# Altium footprint library Cores.PcbLib: 13 footprints
Each footprint in its own frame and in the unit in brackets; x right, y up, seen from the top. Pads: shape width x height; smd on the part's side, far side on the other; paste and mask are expansions set on the pad; w line width, h text height; cw(c..) or ccw(c..) is an arc to the next point about the centre after c.
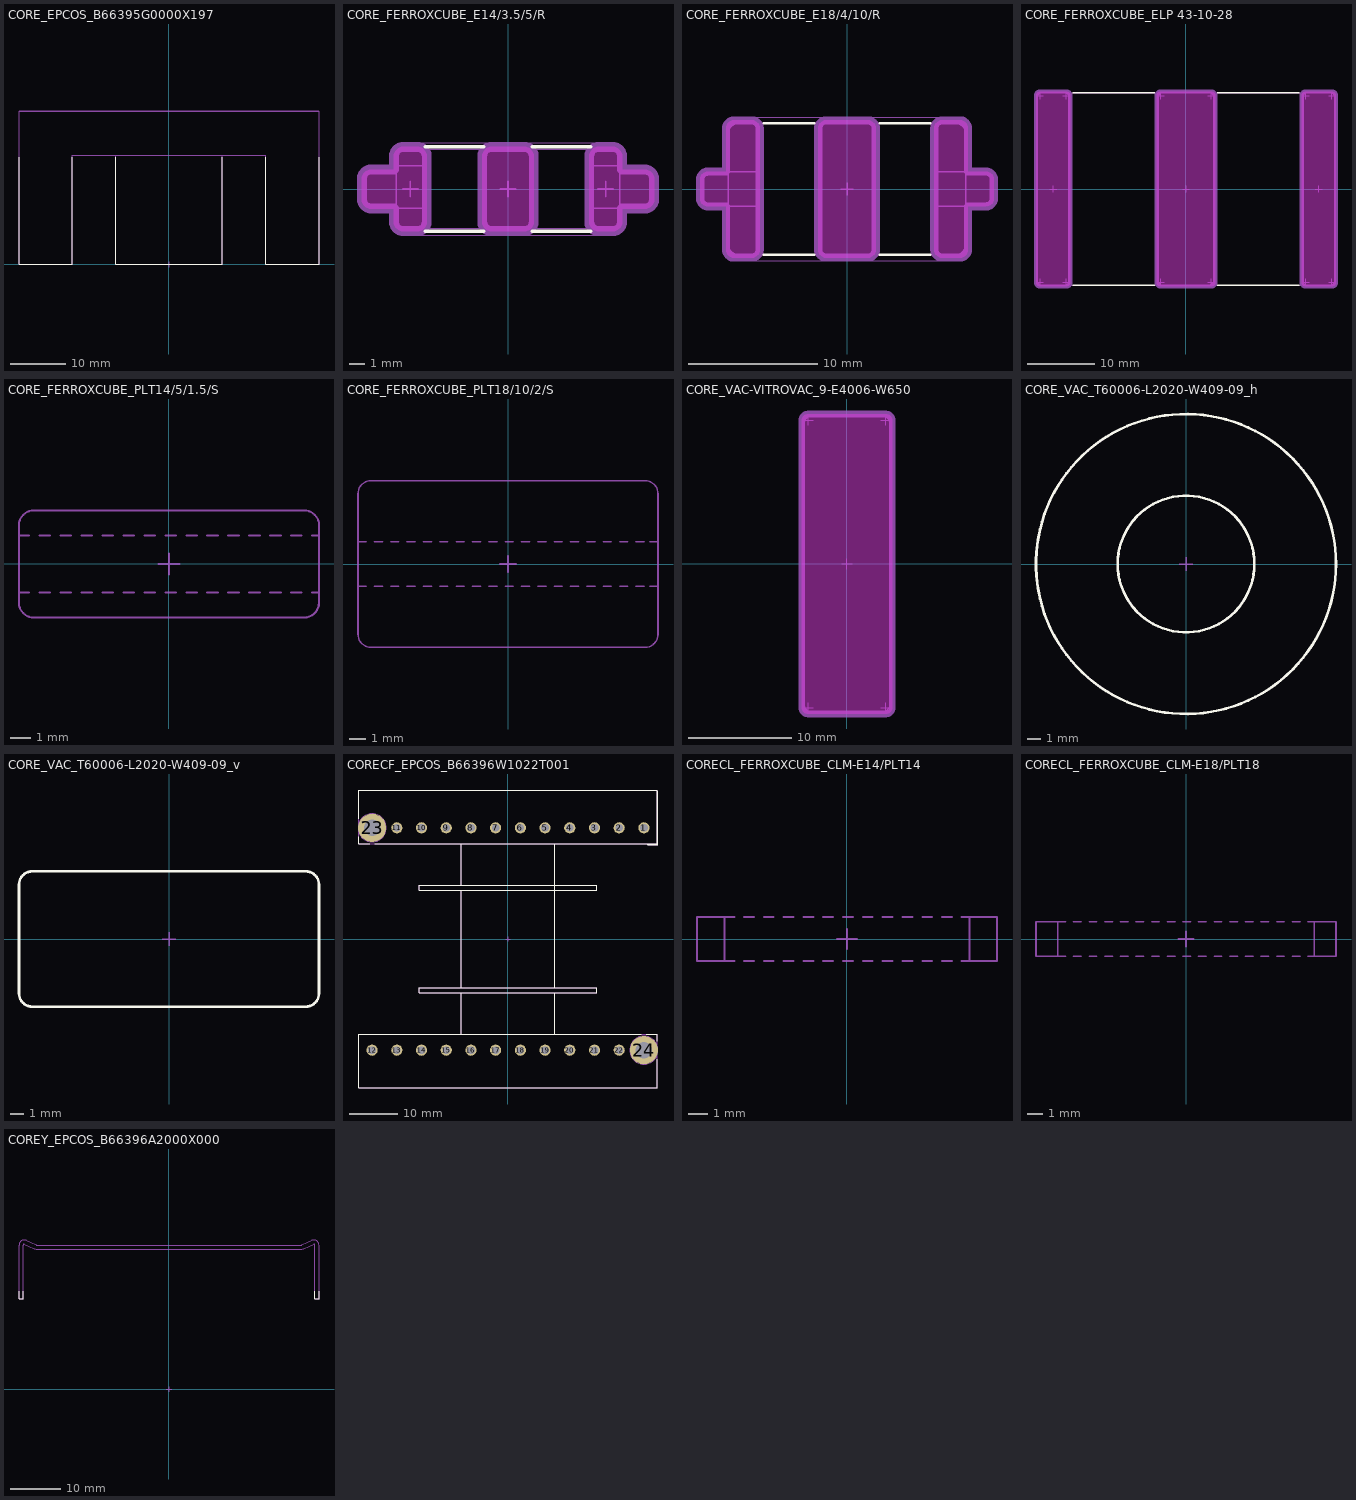
[diagram p0: the footprints below, top view; thin cyan lines are the x and y axes]

## CORE_EPCOS_B66395G0000X197 [mm] "ETD54 Core; L 54.5mm W 27.8mm H 19.3mm"
height 19.3
Top Overlay:
  lines w0.1: -27.25,19.5 -27.25,0 -17.575,0 -17.575,19.5 ; -9.65,10.9 -9.65,19.5 -9.65,0 9.65,0 9.65,19.5 9.65,10.9 ; 17.575,19.5 17.575,0 27.25,0 27.25,19.5
Mechanical 8:
  lines w0.1: -0.5,0 0,0 ; 0,-0.5 0,0 ; 0,0.5 0,0 ; 0.5,0 0,0
Mechanical 14:
  lines w0.1: -27.25,27.9 27.25,27.9 ; 27.25,-0.1 27.25,19.5 27.25,27.8 -27.25,27.8 -27.25,19.5 -27.25,0 -17.575,0 -17.575,19.5 ; 27.25,0 17.575,0 17.575,19.5 ; -17.575,19.5 -17.575,19.8 ; -17.575,19.5 -17.575,19.8 ; -17.575,19.8 17.575,19.8 ; -17.575,19.8 17.575,19.8 ; -9.65,19.5 -9.65,19.8 -9.65,19.5 ; -9.65,19.5 -9.65,0 9.65,0 9.65,19.5 ; 9.65,19.5 9.65,19.8 9.65,19.5 ; 17.575,19.5 17.575,19.8 ; 17.575,19.5 17.575,19.8
3D body "CORE_EPCOS_B66395G0000X197.stp": height 36.95, standoff 17.65, extent -27.25,0 27.25,27.8

## CORE_FERROXCUBE_E14/3.5/5/R [mm] "Planar E Core  With Clamp Recess L 14mm H 3.6mm W 5mm"
height 3.6
Top Overlay:
  lines w0.2: -5.3,-2.7 -1.55,-2.7 ; -5.3,2.7 -1.55,2.7 ; 1.55,-2.7 5.3,-2.7 ; 1.55,2.7 5.3,2.7
Keep-Out Layer:
  board cut-out: -8.75,-1.262 -8.869,-1.262 -9.09,-1.17 -9.259,-1.002 -9.35,-0.781 -9.35,-0.662 -9.35,0.638 -9.35,0.758 -9.259,0.978 -9.09,1.147 -8.869,1.238 -8.75,1.238 -7.3,1.238 -7.3,2.088 -7.3,2.208 -7.209,2.428 -7.04,2.597 -6.819,2.688 -6.7,2.688 -5.8,2.688 -5.681,2.688 -5.46,2.597 -5.291,2.428 -5.2,2.208 -5.2,2.088 -5.2,-2.112 -5.2,-2.231 -5.291,-2.452 -5.46,-2.62 -5.681,-2.712 -5.8,-2.712 -6.7,-2.712 -6.819,-2.712 -7.04,-2.62 -7.209,-2.452 -7.3,-2.231 -7.3,-2.112 -7.3,-1.262
  board cut-out: -1.65,-2.112 -1.65,2.088 -1.65,2.208 -1.559,2.428 -1.39,2.597 -1.169,2.688 -1.05,2.688 1.05,2.688 1.169,2.688 1.39,2.597 1.559,2.428 1.65,2.208 1.65,2.088 1.65,-2.112 1.65,-2.231 1.559,-2.452 1.39,-2.62 1.169,-2.712 1.05,-2.712 -1.05,-2.712 -1.169,-2.712 -1.39,-2.62 -1.559,-2.452 -1.65,-2.231
  board cut-out: 5.2,-2.112 5.2,-2.231 5.291,-2.452 5.46,-2.62 5.681,-2.712 5.8,-2.712 6.7,-2.712 6.819,-2.712 7.04,-2.62 7.209,-2.452 7.3,-2.231 7.3,-2.112 7.3,-1.262 8.75,-1.262 8.869,-1.262 9.09,-1.17 9.259,-1.002 9.35,-0.781 9.35,-0.662 9.35,0.638 9.35,0.758 9.259,0.978 9.09,1.147 8.869,1.238 8.75,1.238 7.3,1.238 7.3,2.088 7.3,2.208 7.209,2.428 7.04,2.597 6.819,2.688 6.7,2.688 5.8,2.688 5.681,2.688 5.46,2.597 5.291,2.428 5.2,2.208 5.2,2.088
Mechanical 1:
  lines w0.635: -9.35,-0.65 ccw(c-8.75,-0.65) -8.75,-1.25 -7.3,-1.25 -7.3,-2.1 ccw(c-6.7,-2.1) -6.7,-2.7 -5.8,-2.7 ccw(c-5.8,-2.1) -5.2,-2.1 -5.2,2.1 ccw(c-5.8,2.1) -5.8,2.7 -6.7,2.7 ccw(c-6.7,2.1) -7.3,2.1 -7.3,1.25 -8.75,1.25 ccw(c-8.75,0.65) -9.35,0.65 -9.35,-0.65 ; -1.65,-2.1 ccw(c-1.05,-2.1) -1.05,-2.7 1.05,-2.7 ccw(c1.05,-2.1) 1.65,-2.1 1.65,2.1 ccw(c1.05,2.1) 1.05,2.7 -1.05,2.7 ccw(c-1.05,2.1) -1.65,2.1 -1.65,-2.1 ; 5.2,-2.1 ccw(c5.8,-2.1) 5.8,-2.7 6.7,-2.7 ccw(c6.7,-2.1) 7.3,-2.1 7.3,-1.25 8.75,-1.25 ccw(c8.75,-0.65) 9.35,-0.65 9.35,0.65 ccw(c8.75,0.65) 8.75,1.25 7.3,1.25 7.3,2.1 ccw(c6.7,2.1) 6.7,2.7 5.8,2.7 ccw(c5.8,2.1) 5.2,2.1 5.2,-2.1
Mechanical 8:
  lines w0.1: -6.75,0 -6.25,0 ; -6.25,-0.5 -6.25,0 ; -6.25,0.5 -6.25,0 ; -5.75,0 -6.25,0 ; -0.5,0 0,0 ; 0,-0.5 0,0 ; 0,0.5 0,0 ; 0.5,0 0,0 ; 5.75,0 6.25,0 ; 6.25,-0.5 6.25,0 ; 6.25,0.5 6.25,0 ; 6.75,0 6.25,0 ; -9.35,-0.65 ccw(c-8.75,-0.65) -8.75,-1.25 -7.3,-1.25 -7.3,-2.1 ccw(c-6.7,-2.1) -6.7,-2.7 -5.8,-2.7 ccw(c-5.8,-2.1) -5.2,-2.1 -5.2,2.1 ccw(c-5.8,2.1) -5.8,2.7 -6.7,2.7 ccw(c-6.7,2.1) -7.3,2.1 -7.3,1.25 -8.75,1.25 ccw(c-8.75,0.65) -9.35,0.65 -9.35,-0.65 ; -1.65,-2.1 ccw(c-1.05,-2.1) -1.05,-2.7 1.05,-2.7 ccw(c1.05,-2.1) 1.65,-2.1 1.65,2.1 ccw(c1.05,2.1) 1.05,2.7 -1.05,2.7 ccw(c-1.05,2.1) -1.65,2.1 -1.65,-2.1 ; 5.2,-2.1 ccw(c5.8,-2.1) 5.8,-2.7 6.7,-2.7 ccw(c6.7,-2.1) 7.3,-2.1 7.3,-1.25 8.75,-1.25 ccw(c8.75,-0.65) 9.35,-0.65 9.35,0.65 ccw(c8.75,0.65) 8.75,1.25 7.3,1.25 7.3,2.1 ccw(c6.7,2.1) 6.7,2.7 5.8,2.7 ccw(c5.8,2.1) 5.2,2.1 5.2,-2.1
Mechanical 14:
  lines w0.1: -7.15,-1.225 -4.95,-1.225 -4.95,1.475 -7.15,1.475 ; 7.15,-1.225 4.95,-1.225 4.95,1.475 7.15,1.475 ; -7.15,-1.85 ccw(c-6.45,-1.85) -6.45,-2.55 6.45,-2.55 ccw(c6.45,-1.85) 7.15,-1.85 7.15,1.85 ccw(c6.45,1.85) 6.45,2.55 -6.45,2.55 ccw(c-6.45,1.85) -7.15,1.85 -7.15,-1.85
Mechanical 15:
  lines w0.05: -9.6,-0.65 ccw(c-8.75,-0.65) -8.75,-1.5 -7.55,-1.5 -7.55,-2.1 ccw(c-6.7,-2.1) -6.7,-2.95 6.7,-2.95 ccw(c6.7,-2.1) 7.55,-2.1 7.55,-1.5 8.75,-1.5 ccw(c8.75,-0.65) 9.6,-0.65 9.6,0.65 ccw(c8.75,0.65) 8.75,1.5 7.55,1.5 7.55,2.1 ccw(c6.7,2.1) 6.7,2.95 -6.7,2.95 ccw(c-6.7,2.1) -7.55,2.1 -7.55,1.5 -8.75,1.5 ccw(c-8.75,0.65) -9.6,0.65 -9.6,-0.65
Drill Drawing:
  lines w0.1: -9.35,-0.6 -3.776,-0.6 ; -8.75,-0.868 -9.35,-0.65 ; -8.75,-0.432 -9.35,-0.65 ; -6.75,0 -6.25,0 ; -6.7,-2.318 -7.3,-2.1 ; -6.7,-1.882 -7.3,-2.1 ; -6.25,-0.5 -6.25,0 ; -6.25,0.5 -6.25,0 ; -6.25,0.6 -6.25,1.5 ; -5.8,-2.318 -5.2,-2.1 ; -5.8,-1.882 -5.2,-2.1 ; -5.75,0 -6.25,0 ; -5.65,0.782 -6.25,1 ; -5.65,1.218 -6.25,1 ; -5.2,-2.7 -1.65,-2.7 ; -5.2,2.7 -1.65,2.7 ; -2.495,-2.1 -2.276,-2.7 ; -2.495,2.1 -2.276,2.7 ; -2.276,0.7 -2.276,-2.7 ; -2.276,1.3 -2.276,2.7 ; -2.058,-2.1 -2.276,-2.7 ; -2.058,2.1 -2.276,2.7 ; -1.976,-0.6 7.525,-0.6 ; -1.05,-2.082 -1.65,-1.864 ; -1.05,-1.645 -1.65,-1.864 ; -0.6,0.782 0,1 ; -0.6,1.218 0,1 ; -0.5,0 0,0 ; 0,-0.5 0,0 ; 0,0.5 0,0 ; 0.5,0 0,0 ; 0.6,0.782 0,1 ; 0.6,1.218 0,1 ; 1.05,-2.082 1.65,-1.864 ; 1.05,-1.645 1.65,-1.864 ; 1.65,-2.7 5.2,-2.7 ; 1.65,2.7 5.2,2.7 ; 2.82,-1.773 6.373,-1.773 7.124,-2.524 ; 5.65,0.782 6.25,1 ; 5.65,1.218 6.25,1 ; 5.75,0 6.25,0 ; 6.218,-2.102 7.124,-2.524 ; 6.25,-0.5 6.25,0 ; 6.25,0.5 6.25,0 ; 6.25,0.6 6.25,1.5 ; 6.702,-1.618 7.124,-2.524 ; 6.75,0 6.25,0 ; 8.107,-0.65 8.325,-1.25 ; 8.107,0.65 8.325,1.25 ; 8.543,-0.65 8.325,-1.25 ; 8.543,0.65 8.325,1.25 ; 8.625,-0.6 9.35,-0.6 ; 8.75,-0.818 9.35,-0.6 ; 8.75,-0.382 9.35,-0.6 ; -9.35,-0.65 ccw(c-8.75,-0.65) -8.75,-1.25 -7.3,-1.25 -7.3,-2.1 ; -9.35,-0.65 -9.35,0.65 cw(c-8.75,0.65) -8.75,1.25 -7.3,1.25 -7.3,2.1 cw(c-6.7,2.1) -6.7,2.7 -5.8,2.7 cw(c-5.8,2.1) -5.2,2.1 -5.2,-2.1 ; -7.3,-2.1 ccw(c-6.7,-2.1) -6.7,-2.7 -5.8,-2.7 ccw(c-5.8,-2.1) -5.2,-2.1 ; -7.3,-2.1 -5.2,-2.1 ; -6.25,1 0,1 ; -1.65,-1.864 1.65,-1.864 ; 0,1 6.25,1 ; 8.325,-1.25 8.325,1.25 ; -1.65,-2.1 ccw(c-1.05,-2.1) -1.05,-2.7 1.05,-2.7 ccw(c1.05,-2.1) 1.65,-2.1 1.65,2.1 ccw(c1.05,2.1) 1.05,2.7 -1.05,2.7 ccw(c-1.05,2.1) -1.65,2.1 -1.65,-2.1 ; 0,0.6 0,1.5 0,0.6 ; 5.2,-2.1 ccw(c5.8,-2.1) 5.8,-2.7 6.7,-2.7 ccw(c6.7,-2.1) 7.3,-2.1 7.3,-1.25 8.75,-1.25 ccw(c8.75,-0.65) 9.35,-0.65 9.35,0.65 ccw(c8.75,0.65) 8.75,1.25 7.3,1.25 7.3,2.1 ccw(c6.7,2.1) 6.7,2.7 5.8,2.7 ccw(c5.8,2.1) 5.2,2.1 5.2,-2.1
  text "3.3" at -0.868,-1.721 h0.9
  text "6.25" at 1.924,1.209 h0.9
  text "18.7" at 2.267,-0.391 h0.9
  text "2.5" at 8.05,-0.587 h0.9
  text "r0.6" at 2.913,-1.658 h0.9
  text "5.4" at -2.488,-1.9 h0.9
  text "2.1" at -7.081,-0.395 h0.9
  text "6.25" at -5.054,1.209 h0.9
3D body "CORE_FERROXCUBE_E14-3.5-5-R.stp": height 1.75, standoff -1.85, extent -7.15,-2.55 7.15,2.55

## CORE_FERROXCUBE_E18/4/10/R [mm] "Planar E Core  With Clamp Recess L 18mm H 4mm W 10mm"
height 4.1
Top Overlay:
  lines w0.2: -6.433,-5.1 -2.542,-5.1 ; -6.433,5.1 -2.542,5.1 ; 2.542,-5.1 6.433,-5.1 ; 2.542,5.1 6.433,5.1
Keep-Out Layer:
  board cut-out: -10.75,-1.35 -10.869,-1.35 -11.09,-1.259 -11.259,-1.09 -11.35,-0.869 -11.35,-0.75 -11.35,0.75 -11.35,0.869 -11.259,1.09 -11.09,1.259 -10.869,1.35 -10.75,1.35 -9.35,1.35 -9.35,4.7 -9.35,4.819 -9.259,5.04 -9.09,5.209 -8.869,5.3 -8.75,5.3 -7.35,5.3 -7.231,5.3 -7.01,5.209 -6.841,5.04 -6.75,4.819 -6.75,4.7 -6.75,-4.7 -6.75,-4.819 -6.841,-5.04 -7.01,-5.209 -7.231,-5.3 -7.35,-5.3 -8.75,-5.3 -8.869,-5.3 -9.09,-5.209 -9.259,-5.04 -9.35,-4.819 -9.35,-4.7 -9.35,-1.35
  board cut-out: -1.625,-5.3 -1.744,-5.3 -1.965,-5.209 -2.134,-5.04 -2.225,-4.819 -2.225,-4.7 -2.225,4.7 -2.225,4.819 -2.134,5.04 -1.965,5.209 -1.744,5.3 -1.625,5.3 1.625,5.3 1.744,5.3 1.965,5.209 2.134,5.04 2.225,4.819 2.225,4.7 2.225,-4.7 2.225,-4.819 2.134,-5.04 1.965,-5.209 1.744,-5.3 1.625,-5.3
  board cut-out: 7.35,-5.3 7.231,-5.3 7.01,-5.209 6.841,-5.04 6.75,-4.819 6.75,-4.7 6.75,4.7 6.75,4.819 6.841,5.04 7.01,5.209 7.231,5.3 7.35,5.3 8.75,5.3 8.869,5.3 9.09,5.209 9.259,5.04 9.35,4.819 9.35,4.7 9.35,1.35 10.75,1.35 10.869,1.35 11.09,1.259 11.259,1.09 11.35,0.869 11.35,0.75 11.35,-0.75 11.35,-0.869 11.259,-1.09 11.09,-1.259 10.869,-1.35 10.75,-1.35 9.35,-1.35 9.35,-4.7 9.35,-4.819 9.259,-5.04 9.09,-5.209 8.869,-5.3 8.75,-5.3
Mechanical 1:
  lines w0.635: -11.35,-0.75 ccw(c-10.75,-0.75) -10.75,-1.35 -9.35,-1.35 -9.35,-4.7 ccw(c-8.75,-4.7) -8.75,-5.3 -7.35,-5.3 ccw(c-7.35,-4.7) -6.75,-4.7 -6.75,4.7 ccw(c-7.35,4.7) -7.35,5.3 -8.75,5.3 ccw(c-8.75,4.7) -9.35,4.7 -9.35,1.35 -10.75,1.35 ccw(c-10.75,0.75) -11.35,0.75 -11.35,-0.75 ; -2.225,-4.7 ccw(c-1.625,-4.7) -1.625,-5.3 1.625,-5.3 ccw(c1.625,-4.7) 2.225,-4.7 2.225,4.7 ccw(c1.625,4.7) 1.625,5.3 -1.625,5.3 ccw(c-1.625,4.7) -2.225,4.7 -2.225,-4.7 ; 6.75,-4.7 ccw(c7.35,-4.7) 7.35,-5.3 8.75,-5.3 ccw(c8.75,-4.7) 9.35,-4.7 9.35,-1.35 10.75,-1.35 ccw(c10.75,-0.75) 11.35,-0.75 11.35,0.75 ccw(c10.75,0.75) 10.75,1.35 9.35,1.35 9.35,4.7 ccw(c8.75,4.7) 8.75,5.3 7.35,5.3 ccw(c7.35,4.7) 6.75,4.7 6.75,-4.7
Mechanical 8:
  lines w0.1: -0.5,0 0,0 ; 0,-0.5 0,0 ; 0,0.5 0,0 ; 0.5,0 0,0
Mechanical 14:
  lines w0.1: -9.175,-1.35 -6.975,-1.35 -6.975,1.35 -9.175,1.35 ; 9.175,-1.35 6.975,-1.35 6.975,1.35 9.175,1.35 ; -9.175,-4.3 ccw(c-8.375,-4.3) -8.375,-5.1 8.375,-5.1 ccw(c8.375,-4.3) 9.175,-4.3 9.175,4.3 ccw(c8.375,4.3) 8.375,5.1 -8.375,5.1 ccw(c-8.375,4.3) -9.175,4.3 -9.175,-4.3
Mechanical 15:
  lines w0.05: -11.6,-0.75 ccw(c-10.75,-0.75) -10.75,-1.6 -9.6,-1.6 -9.6,-4.7 ccw(c-8.75,-4.7) -8.75,-5.55 8.75,-5.55 ccw(c8.75,-4.7) 9.6,-4.7 9.6,-1.6 10.75,-1.6 ccw(c10.75,-0.75) 11.6,-0.75 11.6,0.75 ccw(c10.75,0.75) 10.75,1.6 9.6,1.6 9.6,4.7 ccw(c8.75,4.7) 8.75,5.55 -8.75,5.55 ccw(c-8.75,4.7) -9.6,4.7 -9.6,1.6 -10.75,1.6 ccw(c-10.75,0.75) -11.6,0.75 -11.6,-0.75
Drill Drawing:
  lines w0.1: -10.436,-2.29 -10.094,-1.35 -9.752,-2.29 ; -10.436,2.29 -10.094,1.35 -9.752,2.29 ; -10.41,-1.047 -11.35,-0.705 ; -10.41,-0.363 -11.35,-0.705 ; -10.29,2.975 -9.35,3.317 -10.29,3.659 ; -10.29,3.317 -5.81,3.317 ; -10.094,-2.29 -10.094,2.29 ; -8.55,0 -8.05,0 ; -8.05,-0.5 -8.05,0 ; -8.05,0.5 -8.05,0 ; -8.05,0.6 -8.05,2 ; -7.55,0 -8.05,0 ; -7.11,0.658 -8.05,1 ; -7.11,1.342 -8.05,1 ; -6.75,-5.3 -2.225,-5.3 ; -6.75,5.3 -2.225,5.3 ; -5.81,2.975 -6.75,3.317 -5.81,3.659 ; -4.83,-4.36 -4.488,-5.3 ; -4.83,4.36 -4.488,5.3 ; -4.488,-1.041 -4.488,-5.3 ; -4.488,2.459 -4.488,5.3 ; -4.145,-4.36 -4.488,-5.3 ; -4.145,4.36 -4.488,5.3 ; -3.165,2.975 -2.225,3.317 -3.165,3.659 ; -3.165,3.317 3.165,3.317 ; -0.94,0.658 0,1 ; -0.94,1.342 0,1 ; -0.5,0 0,0 ; 0,-0.5 0,0 ; 0,0.5 0,0 ; 0,0.6 0,2 ; 0.5,0 0,0 ; 0.94,0.658 0,1 ; 0.94,1.342 0,1 ; 2.225,-5.3 6.75,-5.3 ; 2.225,5.3 6.75,5.3 ; 2.989,-3.673 7.723,-3.673 9.174,-5.124 ; 3.165,2.975 2.225,3.317 3.165,3.659 ; 5.81,2.975 6.75,3.317 5.81,3.659 ; 5.81,3.317 10.29,3.317 ; 7.11,0.658 8.05,1 ; 7.11,1.342 8.05,1 ; 7.55,0 8.05,0 ; 8.05,-0.5 8.05,0 ; 8.05,0.5 8.05,0 ; 8.05,0.6 8.05,2 ; 8.268,-4.702 9.174,-5.124 ; 8.55,0 8.05,0 ; 8.752,-4.218 9.174,-5.124 ; 10.29,2.975 9.35,3.317 10.29,3.659 ; 10.41,-1.047 11.35,-0.705 ; 10.41,-0.363 11.35,-0.705 ; -11.35,-0.705 11.35,-0.705 ; -8.05,1 0,1 ; 0,1 8.05,1 ; -11.35,-0.75 ccw(c-10.75,-0.75) -10.75,-1.35 -9.35,-1.35 -9.35,-4.7 ccw(c-8.75,-4.7) -8.75,-5.3 -7.35,-5.3 ccw(c-7.35,-4.7) -6.75,-4.7 -6.75,4.7 ccw(c-7.35,4.7) -7.35,5.3 -8.75,5.3 ccw(c-8.75,4.7) -9.35,4.7 -9.35,1.35 -10.75,1.35 ccw(c-10.75,0.75) -11.35,0.75 -11.35,-0.75 ; -2.225,-4.7 ccw(c-1.625,-4.7) -1.625,-5.3 1.625,-5.3 ccw(c1.625,-4.7) 2.225,-4.7 2.225,4.7 ccw(c1.625,4.7) 1.625,5.3 -1.625,5.3 ccw(c-1.625,4.7) -2.225,4.7 -2.225,-4.7 ; 6.75,-4.7 ccw(c7.35,-4.7) 7.35,-5.3 8.75,-5.3 ccw(c8.75,-4.7) 9.35,-4.7 9.35,-1.35 10.75,-1.35 ccw(c10.75,-0.75) 11.35,-0.75 11.35,0.75 ccw(c10.75,0.75) 10.75,1.35 9.35,1.35 9.35,4.7 ccw(c8.75,4.7) 8.75,5.3 7.35,5.3 ccw(c7.35,4.7) 6.75,4.7 6.75,-4.7
  text "2.6" at -9.06,3.527 h1
  text "10.6" at -4.697,-3.709 h1
  text "4.4" at -1.01,3.527 h1
  text "2.6" at 7.04,3.527 h1
  text "r0.6" at 3.464,-3.464 h1
  text "2.7" at -9.594,-4.714 h1
  text "8.05" at -5.451,1.209 h1
  text "8.05" at 2.599,1.209 h1
  text "22.7" at 2.842,-0.496 h1
3D body "CORE_FERROXCUBE_E18-4-10-R.stp": height 2.3, standoff -1.8, extent -9.175,-5.1 9.175,5.1

## CORE_FERROXCUBE_ELP 43-10-28 [mm] "Planar E Core  With Clamp Recess L 43.2mm W 27.95mm H 9.5mm"
height 9.65
Top Overlay:
  lines w0.2: -16.833,-14.25 -4.666,-14.25 ; -16.833,14.25 -4.666,14.25 ; 4.667,-14.25 16.834,-14.25 ; 4.667,14.25 16.834,14.25
Keep-Out Layer:
  board cut-out: 17.15,-13.85 17.15,13.85 17.15,13.969 17.241,14.19 17.41,14.359 17.631,14.45 17.75,14.45 21.65,14.45 21.769,14.45 21.99,14.359 22.159,14.19 22.25,13.969 22.25,13.85 22.25,-13.85 22.25,-13.969 22.159,-14.19 21.99,-14.359 21.769,-14.45 21.65,-14.45 17.75,-14.45 17.631,-14.45 17.41,-14.359 17.241,-14.19 17.15,-13.969
  board cut-out: -4.35,-13.85 -4.35,13.85 -4.35,13.969 -4.259,14.19 -4.09,14.359 -3.869,14.45 -3.75,14.45 3.75,14.45 3.869,14.45 4.09,14.359 4.259,14.19 4.35,13.969 4.35,13.85 4.35,-13.85 4.35,-13.969 4.259,-14.19 4.09,-14.359 3.869,-14.45 3.75,-14.45 -3.75,-14.45 -3.869,-14.45 -4.09,-14.359 -4.259,-14.19 -4.35,-13.969
  board cut-out: -21.65,-14.45 -17.75,-14.45 -17.631,-14.45 -17.41,-14.359 -17.241,-14.19 -17.15,-13.969 -17.15,-13.85 -17.15,13.85 -17.15,13.969 -17.241,14.19 -17.41,14.359 -17.631,14.45 -17.75,14.45 -21.65,14.45 -21.769,14.45 -21.99,14.359 -22.159,14.19 -22.25,13.969 -22.25,13.85 -22.25,-13.85 -22.25,-13.969 -22.159,-14.19 -21.99,-14.359 -21.769,-14.45
Mechanical 1:
  lines w0.635: -22.25,-13.85 ccw(c-21.65,-13.85) -21.65,-14.45 -17.75,-14.45 ccw(c-17.75,-13.85) -17.15,-13.85 -17.15,13.85 ccw(c-17.75,13.85) -17.75,14.45 -21.65,14.45 ccw(c-21.65,13.85) -22.25,13.85 -22.25,-13.85 ; -4.35,-13.85 ccw(c-3.75,-13.85) -3.75,-14.45 3.75,-14.45 ccw(c3.75,-13.85) 4.35,-13.85 4.35,13.85 ccw(c3.75,13.85) 3.75,14.45 -3.75,14.45 ccw(c-3.75,13.85) -4.35,13.85 -4.35,-13.85 ; 17.15,-13.85 ccw(c17.75,-13.85) 17.75,-14.45 21.65,-14.45 ccw(c21.65,-13.85) 22.25,-13.85 22.25,13.85 ccw(c21.65,13.85) 21.65,14.45 17.75,14.45 ccw(c17.75,13.85) 17.15,13.85 17.15,-13.85
Mechanical 8:
  lines w0.1: -22.15,-13.85 -21.65,-13.85 ; -22.15,13.85 -21.65,13.85 ; -21.65,-14.35 -21.65,-13.85 ; -21.65,-13.35 -21.65,-13.85 ; -21.65,13.35 -21.65,13.85 ; -21.65,14.35 -21.65,13.85 ; -21.15,-13.85 -21.65,-13.85 ; -21.15,13.85 -21.65,13.85 ; -20.2,0 -19.7,0 ; -19.7,-0.5 -19.7,0 ; -19.7,0.5 -19.7,0 ; -19.2,0 -19.7,0 ; -18.25,-13.85 -17.75,-13.85 ; -18.25,13.85 -17.75,13.85 ; -17.75,-14.35 -17.75,-13.85 ; -17.75,-13.35 -17.75,-13.85 ; -17.75,13.35 -17.75,13.85 ; -17.75,14.35 -17.75,13.85 ; -17.25,-13.85 -17.75,-13.85 ; -17.25,13.85 -17.75,13.85 ; -4.25,-13.85 -3.75,-13.85 ; -4.25,13.85 -3.75,13.85 ; -3.75,-14.35 -3.75,-13.85 ; -3.75,-13.35 -3.75,-13.85 ; -3.75,13.35 -3.75,13.85 ; -3.75,14.35 -3.75,13.85 ; -3.25,-13.85 -3.75,-13.85 ; -3.25,13.85 -3.75,13.85 ; -0.5,0 0,0 ; 0,-0.5 0,0 ; 0,0.5 0,0 ; 0.5,0 0,0 ; 3.25,-13.85 3.75,-13.85 ; 3.25,13.85 3.75,13.85 ; 3.75,-14.35 3.75,-13.85 ; 3.75,-13.35 3.75,-13.85 ; 3.75,13.35 3.75,13.85 ; 3.75,14.35 3.75,13.85 ; 4.25,-13.85 3.75,-13.85 ; 4.25,13.85 3.75,13.85 ; 17.25,-13.85 17.75,-13.85 ; 17.25,13.85 17.75,13.85 ; 17.75,-14.35 17.75,-13.85 ; 17.75,-13.35 17.75,-13.85 ; 17.75,13.35 17.75,13.85 ; 17.75,14.35 17.75,13.85 ; 18.25,-13.85 17.75,-13.85 ; 18.25,13.85 17.75,13.85 ; 19.2,0 19.7,0 ; 19.7,-0.5 19.7,0 ; 19.7,0.5 19.7,0 ; 20.2,0 19.7,0 ; 21.15,-13.85 21.65,-13.85 ; 21.15,13.85 21.65,13.85 ; 21.65,-14.35 21.65,-13.85 ; 21.65,-13.35 21.65,-13.85 ; 21.65,13.35 21.65,13.85 ; 21.65,14.35 21.65,13.85 ; 22.15,-13.85 21.65,-13.85 ; 22.15,13.85 21.65,13.85
Mechanical 14:
  lines w0.1: -22.05,-13.61 ccw(c-21.41,-13.61) -21.41,-14.25 ; -22.05,-13.61 ccw(c-21.41,-13.61) -21.41,-14.25 ; -22.05,-13.61 -22.05,13.61 ; -22.05,-13.61 -22.05,13.61 ; -22.05,13.61 cw(c-21.41,13.61) -21.41,14.25 ; -22.05,13.61 cw(c-21.41,13.61) -21.41,14.25 ; -21.41,-14.25 21.41,-14.25 ; -21.41,-14.25 -17.99,-14.25 ccw(c-17.99,-13.61) -17.35,-13.61 -17.35,13.61 ccw(c-17.99,13.61) -17.99,14.25 -21.41,14.25 ; -21.41,14.25 21.41,14.25 ; 21.41,-14.25 ccw(c21.41,-13.61) 22.05,-13.61 ; 21.41,-14.25 ccw(c21.41,-13.61) 22.05,-13.61 ; 21.41,-14.25 17.99,-14.25 cw(c17.99,-13.61) 17.35,-13.61 17.35,13.61 cw(c17.99,13.61) 17.99,14.25 21.41,14.25 ; 21.41,14.25 cw(c21.41,13.61) 22.05,13.61 ; 21.41,14.25 cw(c21.41,13.61) 22.05,13.61 ; 22.05,-13.61 22.05,13.61 ; 22.05,-13.61 22.05,13.61 ; -4.15,-13.44 ccw(c-3.34,-13.44) -3.34,-14.25 3.34,-14.25 ccw(c3.34,-13.44) 4.15,-13.44 4.15,13.44 ccw(c3.34,13.44) 3.34,14.25 -3.34,14.25 ccw(c-3.34,13.44) -4.15,13.44 -4.15,-13.44
Drill Drawing:
  lines w0.1: -22.25,7.325 -22.25,8.225 ; -21.65,7.507 -22.25,7.725 ; -21.65,7.943 -22.25,7.725 ; -21.475,-14.45 -20.575,-14.45 ; -21.475,14.45 -20.575,14.45 ; -20.993,-13.85 -20.775,-14.45 ; -20.993,13.85 -20.775,14.45 ; -20.775,7.425 -20.775,-14.45 ; -20.775,8.025 -20.775,14.45 ; -20.557,-13.85 -20.775,-14.45 ; -20.557,13.85 -20.775,14.45 ; -20.493,-13.523 -18.077,-13.523 -17.326,-14.274 ; -19.7,0.6 -19.7,1.5 ; -19.1,0.782 -19.7,1 ; -19.1,1.218 -19.7,1 ; -18.232,-13.852 -17.326,-14.274 ; -17.75,7.507 -17.15,7.725 ; -17.75,7.943 -17.15,7.725 ; -17.748,-13.368 -17.326,-14.274 ; -17.15,7.325 -17.15,8.225 ; -4.35,7.325 -4.35,8.225 ; -3.75,7.507 -4.35,7.725 ; -3.75,7.943 -4.35,7.725 ; -3.575,-14.45 -2.675,-14.45 ; -3.575,14.45 -2.675,14.45 ; -3.093,-13.85 -2.875,-14.45 ; -3.093,13.85 -2.875,14.45 ; -2.875,0.7 -2.875,-14.45 ; -2.875,1.3 -2.875,7.425 ; -2.875,8.025 -2.875,14.45 ; -2.657,-13.85 -2.875,-14.45 ; -2.657,13.85 -2.875,14.45 ; -0.6,0.782 0,1 ; -0.6,1.218 0,1 ; 0,0.6 0,1.5 ; 0.6,0.782 0,1 ; 0.6,1.218 0,1 ; 1.008,-13.523 3.423,-13.523 4.174,-14.274 ; 3.268,-13.852 4.174,-14.274 ; 3.75,7.507 4.35,7.725 ; 3.75,7.943 4.35,7.725 ; 3.752,-13.368 4.174,-14.274 ; 4.35,7.325 4.35,8.225 ; 17.15,7.325 17.15,8.225 ; 17.75,7.507 17.15,7.725 ; 17.75,7.943 17.15,7.725 ; 17.925,-14.45 18.825,-14.45 ; 17.925,14.45 18.825,14.45 ; 18.407,-13.85 18.625,-14.45 ; 18.407,13.85 18.625,14.45 ; 18.625,0.7 18.625,-14.45 ; 18.625,1.3 18.625,7.425 ; 18.625,8.025 18.625,14.45 ; 18.843,-13.85 18.625,-14.45 ; 18.843,13.85 18.625,14.45 ; 18.908,-13.523 21.323,-13.523 22.074,-14.274 ; 19.1,0.782 19.7,1 ; 19.1,1.218 19.7,1 ; 19.7,0.6 19.7,1.5 ; 21.168,-13.852 22.074,-14.274 ; 21.65,7.507 22.25,7.725 ; 21.65,7.943 22.25,7.725 ; 21.652,-13.368 22.074,-14.274 ; 22.25,7.325 22.25,8.225 ; -22.25,7.725 -17.15,7.725 ; -19.7,1 0,1 ; -19.7,1 0,1 ; -4.35,7.725 4.35,7.725 ; 0,1 19.7,1 ; 17.15,7.725 22.25,7.725 ; -22.25,-13.85 ccw(c-21.65,-13.85) -21.65,-14.45 -17.75,-14.45 ccw(c-17.75,-13.85) -17.15,-13.85 -17.15,13.85 ccw(c-17.75,13.85) -17.75,14.45 -21.65,14.45 ccw(c-21.65,13.85) -22.25,13.85 -22.25,-13.85 ; -4.35,-13.85 ccw(c-3.75,-13.85) -3.75,-14.45 3.75,-14.45 ccw(c3.75,-13.85) 4.35,-13.85 4.35,13.85 ccw(c3.75,13.85) 3.75,14.45 -3.75,14.45 ccw(c-3.75,13.85) -4.35,13.85 -4.35,-13.85 ; 17.15,-13.85 ccw(c17.75,-13.85) 17.75,-14.45 21.65,-14.45 ccw(c21.65,-13.85) 22.25,-13.85 22.25,13.85 ccw(c21.65,13.85) 21.65,14.45 17.75,14.45 ccw(c17.75,13.85) 17.15,13.85 17.15,-13.85
  text "19.7" at -10.961,1.209 h1
  text "19.7" at 8.739,1.209 h1
  text "r0.6" at 19.092,-13.408 h1
  text "8.7" at -0.86,7.934 h1
  text "5.1" at -20.46,7.934 h1
  text "28.9" at -20.984,-2.233 h1
  text "28.9" at -3.084,-2.233 h1
  text "28.9" at 18.416,-2.233 h1
  text "5.1" at 18.94,7.934 h1
  text "r0.6" at 1.192,-13.408 h1
  text "r0.6" at -20.308,-13.408 h1
  text "4x" at -19.883,-12.187 h1
  text "4x" at 1.617,-12.187 h1
  text "4x" at 19.517,-12.187 h1
3D body "CORE_FERROXCUBE_ELP 43-10-28.stp": height 4.23, standoff -5.4, extent -22.05,-14.25 22.05,14.25

## CORE_FERROXCUBE_PLT14/5/1.5/S [mm] "Slotted Plate For E core (E14/3.5/5/R) L 14.3mm W 5mm H 1.85mm"
height 1.85
Bottom Overlay:
  lines w0.2: -5.3,-2.7 -1.55,-2.7 ; -5.3,2.7 -1.55,2.7 ; 1.55,-2.7 5.3,-2.7 ; 1.55,2.7 5.3,2.7
Mechanical 8:
  lines w0.1: 0,0 0,0.5 0,0 ; 0,0 0.5,0 0,0 ; 0,0 0,-0.5 0,0 ; 0,0 -0.5,0 0,0
Mechanical 14:
  lines w0.1: -7.15,-1.35 -6.675,-1.35 ; -7.15,1.35 -6.675,1.35 ; -6.175,-1.35 -5.675,-1.35 ; -6.175,1.35 -5.675,1.35 ; -5.175,-1.35 -4.675,-1.35 ; -5.175,1.35 -4.675,1.35 ; -4.175,-1.35 -3.675,-1.35 ; -4.175,1.35 -3.675,1.35 ; -3.175,-1.35 -2.675,-1.35 ; -3.175,1.35 -2.675,1.35 ; -2.175,-1.35 -1.675,-1.35 ; -2.175,1.35 -1.675,1.35 ; -1.175,-1.35 -0.675,-1.35 ; -1.175,1.35 -0.675,1.35 ; -0.175,-1.35 0.325,-1.35 ; -0.175,1.35 0.325,1.35 ; 0.825,-1.35 1.325,-1.35 ; 0.825,1.35 1.325,1.35 ; 1.825,-1.35 2.325,-1.35 ; 1.825,1.35 2.325,1.35 ; 2.825,-1.35 3.325,-1.35 ; 2.825,1.35 3.325,1.35 ; 3.825,-1.35 4.325,-1.35 ; 3.825,1.35 4.325,1.35 ; 4.825,-1.35 5.325,-1.35 ; 4.825,1.35 5.325,1.35 ; 5.825,-1.35 6.325,-1.35 ; 5.825,1.35 6.325,1.35 ; 6.825,-1.35 7.15,-1.35 ; 6.825,1.35 7.15,1.35 ; -7.15,-1.85 ccw(c-6.45,-1.85) -6.45,-2.55 6.45,-2.55 ccw(c6.45,-1.85) 7.15,-1.85 7.15,1.85 ccw(c6.45,1.85) 6.45,2.55 -6.45,2.55 ccw(c-6.45,1.85) -7.15,1.85 -7.15,-1.85
3D body "CORE_FERROXCUBE_PLT14-5-1.5-S.stp": height -1.85, standoff -3.65, extent -7.15,-2.55 7.15,2.55

## CORE_FERROXCUBE_PLT18/10/2/S [mm] "Slotted Plate For E core (E18/4/10/R) L 18mm W 10mm H 2.4mm"
height 2.45
Bottom Overlay:
  lines w0.2: -6.433,-5.1 -2.542,-5.1 ; -6.433,5.1 -2.542,5.1 ; 2.542,-5.1 6.433,-5.1 ; 2.542,5.1 6.433,5.1
Mechanical 8:
  lines w0.1: -0.5,0 0,0 ; 0,-0.5 0,0 ; 0,0.5 0,0 ; 0.5,0 0,0
Mechanical 14:
  lines w0.1: -9.175,-1.35 -8.675,-1.35 ; -9.175,1.35 -8.675,1.35 ; -8.175,-1.35 -7.675,-1.35 ; -8.175,1.35 -7.675,1.35 ; -7.175,-1.35 -6.675,-1.35 ; -7.175,1.35 -6.675,1.35 ; -6.175,-1.35 -5.675,-1.35 ; -6.175,1.35 -5.675,1.35 ; -5.175,-1.35 -4.675,-1.35 ; -5.175,1.35 -4.675,1.35 ; -4.175,-1.35 -3.675,-1.35 ; -4.175,1.35 -3.675,1.35 ; -3.175,-1.35 -2.675,-1.35 ; -3.175,1.35 -2.675,1.35 ; -2.175,-1.35 -1.675,-1.35 ; -2.175,1.35 -1.675,1.35 ; -1.175,-1.35 -0.675,-1.35 ; -1.175,1.35 -0.675,1.35 ; -0.175,-1.35 0.325,-1.35 ; -0.175,1.35 0.325,1.35 ; 0.825,-1.35 1.325,-1.35 ; 0.825,1.35 1.325,1.35 ; 1.825,-1.35 2.325,-1.35 ; 1.825,1.35 2.325,1.35 ; 2.825,-1.35 3.325,-1.35 ; 2.825,1.35 3.325,1.35 ; 3.825,-1.35 4.325,-1.35 ; 3.825,1.35 4.325,1.35 ; 4.825,-1.35 5.325,-1.35 ; 4.825,1.35 5.325,1.35 ; 5.825,-1.35 6.325,-1.35 ; 5.825,1.35 6.325,1.35 ; 6.825,-1.35 7.325,-1.35 ; 6.825,1.35 7.325,1.35 ; 7.825,-1.35 8.325,-1.35 ; 7.825,1.35 8.325,1.35 ; 8.675,-1.35 9.175,-1.35 ; 8.675,1.35 9.175,1.35 ; -9.175,-4.3 ccw(c-8.375,-4.3) -8.375,-5.1 8.375,-5.1 ccw(c8.375,-4.3) 9.175,-4.3 9.175,4.3 ccw(c8.375,4.3) 8.375,5.1 -8.375,5.1 ccw(c-8.375,4.3) -9.175,4.3 -9.175,-1.1 -9.175,-4.3
3D body "CORE_FERROXCUBE_PLT18-10-2-S.stp": height -1.8, standoff -4.2, extent -9.175,-5.1 9.175,5.1

## CORE_VAC-VITROVAC_9-E4006-W650 [mm] "Amorphous Tape-Wound Core, D 6.6mm d 3.5mm W 2mm"
height 6.6
Keep-Out Layer:
  board cut-out: -4.35,-13.85 -4.35,13.85 -4.35,13.969 -4.259,14.19 -4.09,14.359 -3.869,14.45 -3.75,14.45 3.75,14.45 3.869,14.45 4.09,14.359 4.259,14.19 4.35,13.969 4.35,13.85 4.35,-13.85 4.35,-13.969 4.259,-14.19 4.09,-14.359 3.869,-14.45 3.75,-14.45 -3.75,-14.45 -3.869,-14.45 -4.09,-14.359 -4.259,-14.19 -4.35,-13.969
Mechanical 1:
  lines w0.635: -4.35,-13.85 ccw(c-3.75,-13.85) -3.75,-14.45 3.75,-14.45 ccw(c3.75,-13.85) 4.35,-13.85 4.35,13.85 ccw(c3.75,13.85) 3.75,14.45 -3.75,14.45 ccw(c-3.75,13.85) -4.35,13.85 -4.35,-13.85
Mechanical 8:
  lines w0.1: -4.25,-13.85 -3.75,-13.85 ; -4.25,13.85 -3.75,13.85 ; -3.75,-14.35 -3.75,-13.85 ; -3.75,-13.35 -3.75,-13.85 ; -3.75,13.35 -3.75,13.85 ; -3.75,14.35 -3.75,13.85 ; -3.25,-13.85 -3.75,-13.85 ; -3.25,13.85 -3.75,13.85 ; -0.5,0 0,0 ; 0,-0.5 0,0 ; 0,0.5 0,0 ; 0.5,0 0,0 ; 3.25,-13.85 3.75,-13.85 ; 3.25,13.85 3.75,13.85 ; 3.75,-14.35 3.75,-13.85 ; 3.75,-13.35 3.75,-13.85 ; 3.75,13.35 3.75,13.85 ; 3.75,14.35 3.75,13.85 ; 4.25,-13.85 3.75,-13.85 ; 4.25,13.85 3.75,13.85
Mechanical 14:
  lines w0.1: -4.15,-13.44 ccw(c-3.34,-13.44) -3.34,-14.25 3.34,-14.25 ccw(c3.34,-13.44) 4.15,-13.44 4.15,13.44 ccw(c3.34,13.44) 3.34,14.25 -3.34,14.25 ccw(c-3.34,13.44) -4.15,13.44 -4.15,-13.44
Drill Drawing:
  lines w0.1: -4.35,7.325 -4.35,8.225 ; -3.75,7.507 -4.35,7.725 ; -3.75,7.943 -4.35,7.725 ; -3.575,-14.45 -2.675,-14.45 ; -3.575,14.45 -2.675,14.45 ; -3.093,-13.85 -2.875,-14.45 ; -3.093,13.85 -2.875,14.45 ; -2.875,0.7 -2.875,-14.45 ; -2.875,1.3 -2.875,7.425 ; -2.875,8.025 -2.875,14.45 ; -2.657,-13.85 -2.875,-14.45 ; -2.657,13.85 -2.875,14.45 ; -0.6,0.782 0,1 ; -0.6,1.218 0,1 ; 0,0.6 0,1.5 ; 0.6,0.782 0,1 ; 0.6,1.218 0,1 ; 1.008,-13.523 3.423,-13.523 4.174,-14.274 ; 3.268,-13.852 4.174,-14.274 ; 3.75,7.507 4.35,7.725 ; 3.75,7.943 4.35,7.725 ; 3.752,-13.368 4.174,-14.274 ; 4.35,7.325 4.35,8.225 ; -4.35,7.725 4.35,7.725 ; -4.35,-13.85 ccw(c-3.75,-13.85) -3.75,-14.45 3.75,-14.45 ccw(c3.75,-13.85) 4.35,-13.85 4.35,13.85 ccw(c3.75,13.85) 3.75,14.45 -3.75,14.45 ccw(c-3.75,13.85) -4.35,13.85 -4.35,-13.85
  text "8.7" at -0.86,7.934 h1
  text "28.9" at -3.084,-2.233 h1
  text "r0.6" at 1.192,-13.408 h1
  text "4x" at 1.617,-12.187 h1

## CORE_VAC_T60006-L2020-W409-09_h [mm] "Nanocrystalline Vitroperm Core in Plastic Casing for Common Mode Choke, D 22.6mm d 10.3mm W 10.2mm"
height 10.2
Top Overlay:
  circle w0.2: c0,0 r5.15
  circle w0.2: c0,0 r11.3
Mechanical 8:
  lines w0.1: -0.5,0 0,0 ; 0,-0.5 0,0 ; 0,0.5 0,0 ; 0.5,0 0,0
Mechanical 14:
  circle w0.1: c0,0 r5.15
  circle w0.1: c0,0 r11.3
3D body "CORE_VAC_T60006-L2020-W409-09_h.stp": height 10.2, standoff 0, extent -11.3,-11.297 11.3,11.297

## CORE_VAC_T60006-L2020-W409-09_v [mm] "Nanocrystalline Vitroperm Core in Plastic Casing for Common Mode Choke, D 22.6mm d 10.3mm W 10.2mm"
height 22.6
Top Overlay:
  lines w0.2: -11.3,-4.1 ccw(c-10.3,-4.1) -10.3,-5.1 10.3,-5.1 ccw(c10.3,-4.1) 11.3,-4.1 11.3,4.1 ccw(c10.3,4.1) 10.3,5.1 -10.3,5.1 ccw(c-10.3,4.1) -11.3,4.1 -11.3,-4.1
Mechanical 8:
  lines w0.1: -0.5,0 0,0 ; 0,-0.5 0,0 ; 0,0.5 0,0 ; 0.5,0 0,0
Mechanical 14:
  lines w0.1: -11.3,-4.1 ccw(c-10.3,-4.1) -10.3,-5.1 10.3,-5.1 ccw(c10.3,-4.1) 11.3,-4.1 11.3,4.1 ccw(c10.3,4.1) 10.3,5.1 -10.3,5.1 ccw(c-10.3,4.1) -11.3,4.1 -11.3,-4.1
3D body "CORE_VAC_T60006-L2020-W409-09_v.stp": height 22.6, standoff 0, extent -11.3,-5.1 11.3,5.1

## CORECF_EPCOS_B66396W1022T001 [mm] "ETD54 Coil Former; L 61.6mm W 61.4mm H 46mm"
height 46
pads (24):
  round 2.3 hole 1.6: 1(27.94,22.86) 2(22.86,22.86) 3(17.78,22.86) 4(12.7,22.86) 5(7.62,22.86) 6(2.54,22.86) 7(-2.54,22.86) 8(-7.62,22.86) 9(-12.7,22.86) 10(-17.78,22.86) 11(-22.86,22.86) 12(-27.94,-22.86) 13(-22.86,-22.86) 14(-17.78,-22.86) 15(-12.7,-22.86) 16(-7.62,-22.86) 17(-2.54,-22.86) 18(2.54,-22.86) 19(7.62,-22.86) 20(12.7,-22.86) 21(17.78,-22.86) 22(22.86,-22.86)
  round 5.8 hole 3.4: 23(-27.94,22.86) 24(27.94,-22.86)
Top Overlay:
  lines w0.2: -30.65,20.977 -30.65,19.6 -28.452,19.6 ; -30.65,24.743 -30.65,30.6 30.65,30.6 30.65,19.6 -27.428,19.6 ; -9.65,-19.6 -9.65,-11 ; -9.65,-10 -9.65,10 ; -9.65,11 -9.65,19.6 ; 9.65,-19.6 9.65,-11 ; 9.65,10 9.65,-10 9.65,19.6 9.65,11 ; 27.428,-19.6 -30.65,-19.6 -30.65,-30.6 30.65,-30.6 30.65,-24.743 ; 28.452,-19.6 30.65,-19.6 30.65,-20.977 ; 28.75,19.6 28.75,19.4 30.75,19.4 30.75,30.4 30.65,30.4 ; -18.2,-11 -17.575,-11 17.575,-11 18.2,-11 18.2,-10 17.575,-10 -17.575,-10 -18.2,-10 -18.2,-11 ; -18.2,10 -17.575,10 17.575,10 18.2,10 18.2,11 17.575,11 -17.575,11 -18.2,11 -18.2,10
Mechanical 8:
  circle w0.1: c-27.94,22.86 r1.7
  circle w0.1: c27.94,-22.86 r1.7
  circle w0.1: c-27.94,-22.86 r0.8
  circle w0.1: c22.86,-22.86 r0.8
  circle w0.1: c27.94,22.86 r0.8
  circle w0.1: c-22.86,22.86 r0.8
  circle w0.1: c-27.94,22.86 r2.9
  circle w0.1: c27.94,-22.86 r2.9
  lines w0.1: -28.44,-22.86 -27.94,-22.86 ; -28.44,22.86 -27.94,22.86 ; -27.94,-23.36 -27.94,-22.86 ; -27.94,-22.36 -27.94,-22.86 ; -27.94,22.36 -27.94,22.86 ; -27.94,23.36 -27.94,22.86 ; -27.44,-22.86 -27.94,-22.86 ; -27.44,22.86 -27.94,22.86 ; -23.36,-22.86 -22.86,-22.86 ; -23.36,22.86 -22.86,22.86 ; -22.86,-23.36 -22.86,-22.86 ; -22.86,-22.36 -22.86,-22.86 ; -22.86,22.36 -22.86,22.86 ; -22.86,23.36 -22.86,22.86 ; -22.36,-22.86 -22.86,-22.86 ; -22.36,22.86 -22.86,22.86 ; -18.28,-22.86 -17.78,-22.86 ; -18.28,22.86 -17.78,22.86 ; -17.78,-23.36 -17.78,-22.86 ; -17.78,-22.36 -17.78,-22.86 ; -17.78,22.36 -17.78,22.86 ; -17.78,23.36 -17.78,22.86 ; -17.28,-22.86 -17.78,-22.86 ; -17.28,22.86 -17.78,22.86 ; -13.2,-22.86 -12.7,-22.86 ; -13.2,22.86 -12.7,22.86 ; -12.7,-23.36 -12.7,-22.86 ; -12.7,-22.36 -12.7,-22.86 ; -12.7,22.36 -12.7,22.86 ; -12.7,23.36 -12.7,22.86 ; -12.2,-22.86 -12.7,-22.86 ; -12.2,22.86 -12.7,22.86 ; -8.12,-22.86 -7.62,-22.86 ; -8.12,22.86 -7.62,22.86 ; -7.62,-23.36 -7.62,-22.86 ; -7.62,-22.36 -7.62,-22.86 ; -7.62,22.36 -7.62,22.86 ; -7.62,23.36 -7.62,22.86 ; -7.12,-22.86 -7.62,-22.86 ; -7.12,22.86 -7.62,22.86 ; -3.04,-22.86 -2.54,-22.86 ; -3.04,22.86 -2.54,22.86 ; -2.54,-23.36 -2.54,-22.86 ; -2.54,-22.36 -2.54,-22.86 ; -2.54,22.36 -2.54,22.86 ; -2.54,23.36 -2.54,22.86 ; -2.04,-22.86 -2.54,-22.86 ; -2.04,22.86 -2.54,22.86 ; -0.5,0 0,0 ; 0,-0.5 0,0 ; 0,0.5 0,0 ; 0.5,0 0,0 ; 2.04,-22.86 2.54,-22.86 ; 2.04,22.86 2.54,22.86 ; 2.54,-23.36 2.54,-22.86 ; 2.54,-22.36 2.54,-22.86 ; 2.54,22.36 2.54,22.86 ; 2.54,23.36 2.54,22.86 ; 3.04,-22.86 2.54,-22.86 ; 3.04,22.86 2.54,22.86 ; 7.12,-22.86 7.62,-22.86 ; 7.12,22.86 7.62,22.86 ; 7.62,-23.36 7.62,-22.86 ; 7.62,-22.36 7.62,-22.86 ; 7.62,22.36 7.62,22.86 ; 7.62,23.36 7.62,22.86 ; 8.12,-22.86 7.62,-22.86 ; 8.12,22.86 7.62,22.86 ; 12.2,-22.86 12.7,-22.86 ; 12.2,22.86 12.7,22.86 ; 12.7,-23.36 12.7,-22.86 ; 12.7,-22.36 12.7,-22.86 ; 12.7,22.36 12.7,22.86 ; 12.7,23.36 12.7,22.86 ; 13.2,-22.86 12.7,-22.86 ; 13.2,22.86 12.7,22.86 ; 17.28,-22.86 17.78,-22.86 ; 17.28,22.86 17.78,22.86 ; 17.78,-23.36 17.78,-22.86 ; 17.78,-22.36 17.78,-22.86 ; 17.78,22.36 17.78,22.86 ; 17.78,23.36 17.78,22.86 ; 18.28,-22.86 17.78,-22.86 ; 18.28,22.86 17.78,22.86 ; 22.36,-22.86 22.86,-22.86 ; 22.36,22.86 22.86,22.86 ; 22.86,-23.36 22.86,-22.86 ; 22.86,-22.36 22.86,-22.86 ; 22.86,22.36 22.86,22.86 ; 22.86,23.36 22.86,22.86 ; 23.36,-22.86 22.86,-22.86 ; 23.36,22.86 22.86,22.86 ; 27.44,-22.86 27.94,-22.86 ; 27.44,22.86 27.94,22.86 ; 27.94,-23.36 27.94,-22.86 ; 27.94,-22.36 27.94,-22.86 ; 27.94,22.36 27.94,22.86 ; 27.94,23.36 27.94,22.86 ; 28.44,-22.86 27.94,-22.86 ; 28.44,22.86 27.94,22.86
Mechanical 14:
  lines w0.1: -9.65,-19.6 -9.65,-11 ; -9.65,-10 -9.65,10 ; -9.65,11 -9.65,19.6 ; 9.65,-19.6 9.65,-11 ; 9.65,-10 9.65,10 ; 9.65,11 9.65,19.6 ; 28.75,19.6 28.75,19.4 30.75,19.4 30.75,30.4 30.65,30.4 ; -30.65,-30.6 -30.65,-19.6 30.65,-19.6 30.65,-30.6 -30.65,-30.6 ; -30.65,19.6 -30.65,30.6 30.65,30.6 30.65,19.6 -30.65,19.6 ; -18.2,-11 -17.575,-11 17.575,-11 18.2,-11 18.2,-10 17.575,-10 -17.575,-10 -18.2,-10 -18.2,-11 ; -18.2,10 -17.575,10 17.575,10 18.2,10 18.2,11 17.575,11 -17.575,11 -18.2,11 -18.2,10
3D body "CORECF_EPCOS_B66396W1022T001.stp": height 46.35, standoff -4.7, extent -30.65,-30.6 30.75,30.6

## CORECL_FERROXCUBE_CLM-E14/PLT14 [mm] "Clamp For Planar E core (E14/3.5/5/R) And Slotted Plate  PLT14/5/1.5/S"
height 5.5
Mechanical 8:
  lines w0.1: -0.5,0 0,0 ; 0,-0.5 0,0 ; 0,0.5 0,0 ; 0.5,0 0,0
Mechanical 14:
  lines w0.1: -5.675,-1.1 -6.175,-1.1 ; -5.675,1.1 -6.175,1.1 ; -5.2,-1.1 -4.7,-1.1 ; -5.2,1.1 -4.7,1.1 ; -4.2,-1.1 -3.7,-1.1 ; -4.2,1.1 -3.7,1.1 ; -3.2,-1.1 -2.7,-1.1 ; -3.2,1.1 -2.7,1.1 ; -2.2,-1.1 -1.7,-1.1 ; -2.2,1.1 -1.7,1.1 ; -1.2,-1.1 -0.7,-1.1 ; -1.2,1.1 -0.7,1.1 ; -0.2,-1.1 0.3,-1.1 ; -0.2,1.1 0.3,1.1 ; 0.8,-1.1 1.3,-1.1 ; 0.8,1.1 1.3,1.1 ; 1.8,-1.1 2.3,-1.1 ; 1.8,1.1 2.3,1.1 ; 2.8,-1.1 3.3,-1.1 ; 2.8,1.1 3.3,1.1 ; 3.8,-1.1 4.3,-1.1 ; 3.8,1.1 4.3,1.1 ; 4.8,-1.1 5.3,-1.1 ; 4.8,1.1 5.3,1.1 ; 5.775,-1.1 6.175,-1.1 ; 5.775,1.1 6.175,1.1 ; -6.175,-1.1 -6.175,1.1 ; -6.175,-1.1 -7.575,-1.1 -7.575,1.1 -6.175,1.1 ; 6.175,-1.1 7.575,-1.1 7.575,1.1 6.175,1.1 ; 6.175,-1.1 6.175,1.1
3D body "CORECL_FERROXCUBE_CLM-E14-PLT14.stp": height 1.35, standoff -3.65, extent -7.575,-1.1 7.575,1.1

## CORECL_FERROXCUBE_CLM-E18/PLT18 [mm] "Clamp For Planar E core (E18/4/10/R) And Slotted Plate  PLT18/10/2/S"
height 6.55
Mechanical 8:
  lines w0.1: -0.5,0 0,0 ; 0,-0.5 0,0 ; 0,0.5 0,0 ; 0.5,0 0,0
Mechanical 14:
  lines w0.1: -7.7,-1.1 -8.2,-1.1 ; -7.7,1.1 -8.2,1.1 ; -7.2,-1.1 -6.7,-1.1 ; -7.2,1.1 -6.7,1.1 ; -6.2,-1.1 -5.7,-1.1 ; -6.2,1.1 -5.7,1.1 ; -5.2,-1.1 -4.7,-1.1 ; -5.2,1.1 -4.7,1.1 ; -4.2,-1.1 -3.7,-1.1 ; -4.2,1.1 -3.7,1.1 ; -3.2,-1.1 -2.7,-1.1 ; -3.2,1.1 -2.7,1.1 ; -2.2,-1.1 -1.7,-1.1 ; -2.2,1.1 -1.7,1.1 ; -1.2,-1.1 -0.7,-1.1 ; -1.2,1.1 -0.7,1.1 ; -0.2,-1.1 0.3,-1.1 ; -0.2,1.1 0.3,1.1 ; 0.8,-1.1 1.3,-1.1 ; 0.8,1.1 1.3,1.1 ; 1.8,-1.1 2.3,-1.1 ; 1.8,1.1 2.3,1.1 ; 2.8,-1.1 3.3,-1.1 ; 2.8,1.1 3.3,1.1 ; 3.8,-1.1 4.3,-1.1 ; 3.8,1.1 4.3,1.1 ; 4.8,-1.1 5.3,-1.1 ; 4.8,1.1 5.3,1.1 ; 5.8,-1.1 6.3,-1.1 ; 5.8,1.1 6.3,1.1 ; 6.8,-1.1 7.3,-1.1 ; 6.8,1.1 7.3,1.1 ; 7.8,-1.1 8.2,-1.1 ; 7.8,1.1 8.2,1.1 ; -8.2,-1.1 -9.6,-1.1 -9.6,1.1 -8.2,1.1 ; -8.2,-1.1 -8.2,1.1 ; 8.2,-1.1 8.2,1.1 ; 8.2,-1.1 9.6,-1.1 9.6,1.1 8.2,1.1
3D body "CORECL_FERROXCUBE_CLM-E18-PLT18.stp": height 1.9, standoff -4.2, extent -9.6,-1.1 9.6,1.1

## COREY_EPCOS_B66396A2000X000 [mm] "ETD54 Yoke; L 59.7mm W 11.7mm H 19.3mm"
height 19.3
Top Overlay:
  lines w0.2: -29.95,19.6 -29.95,18.116 -29.15,18.116 -29.15,19.6 ; 29.15,19.6 29.15,18.116 29.95,18.116 29.95,19.6
Mechanical 8:
  lines w0.1: -0.5,0 0,0 ; 0,-0.5 0,0 ; 0,0.5 0,0 ; 0.5,0 0,0
Mechanical 14:
  lines w0.1: -29.95,18.116 -29.95,19.6 -29.95,28.816 cw(c-28.95,28.816) -28.544,29.73 -26.547,28.843 ccw(c-26.344,29.3) -26.344,28.8 26.344,28.8 ccw(c26.344,29.3) 26.547,28.843 28.544,29.73 cw(c28.95,28.816) 29.95,28.816 29.95,19.6 29.95,18.116 29.15,18.116 29.15,19.6 29.15,28.816 ccw(c28.95,28.816) 28.869,28.999 26.872,28.112 cw(c26.344,29.3) 26.344,28 -26.344,28 cw(c-26.344,29.3) -26.872,28.112 -28.869,28.999 ccw(c-28.95,28.816) -29.15,28.816 -29.15,19.6 -29.15,18.116 -29.95,18.116
3D body "COREY_EPCOS_B66396A2000X000.stp": height 36.95, standoff 17.65, extent -29.95,18.117 29.95,29.808